# Altium footprint library Lib Marius.PcbLib: 393 footprints (part 6 of 25)
Each footprint in its own frame and in the unit in brackets; x right, y up, seen from the top. Pads: shape width x height; smd on the part's side, far side on the other; paste and mask are expansions set on the pad; w line width, h text height; cw(c..) or ccw(c..) is an arc to the next point about the centre after c.
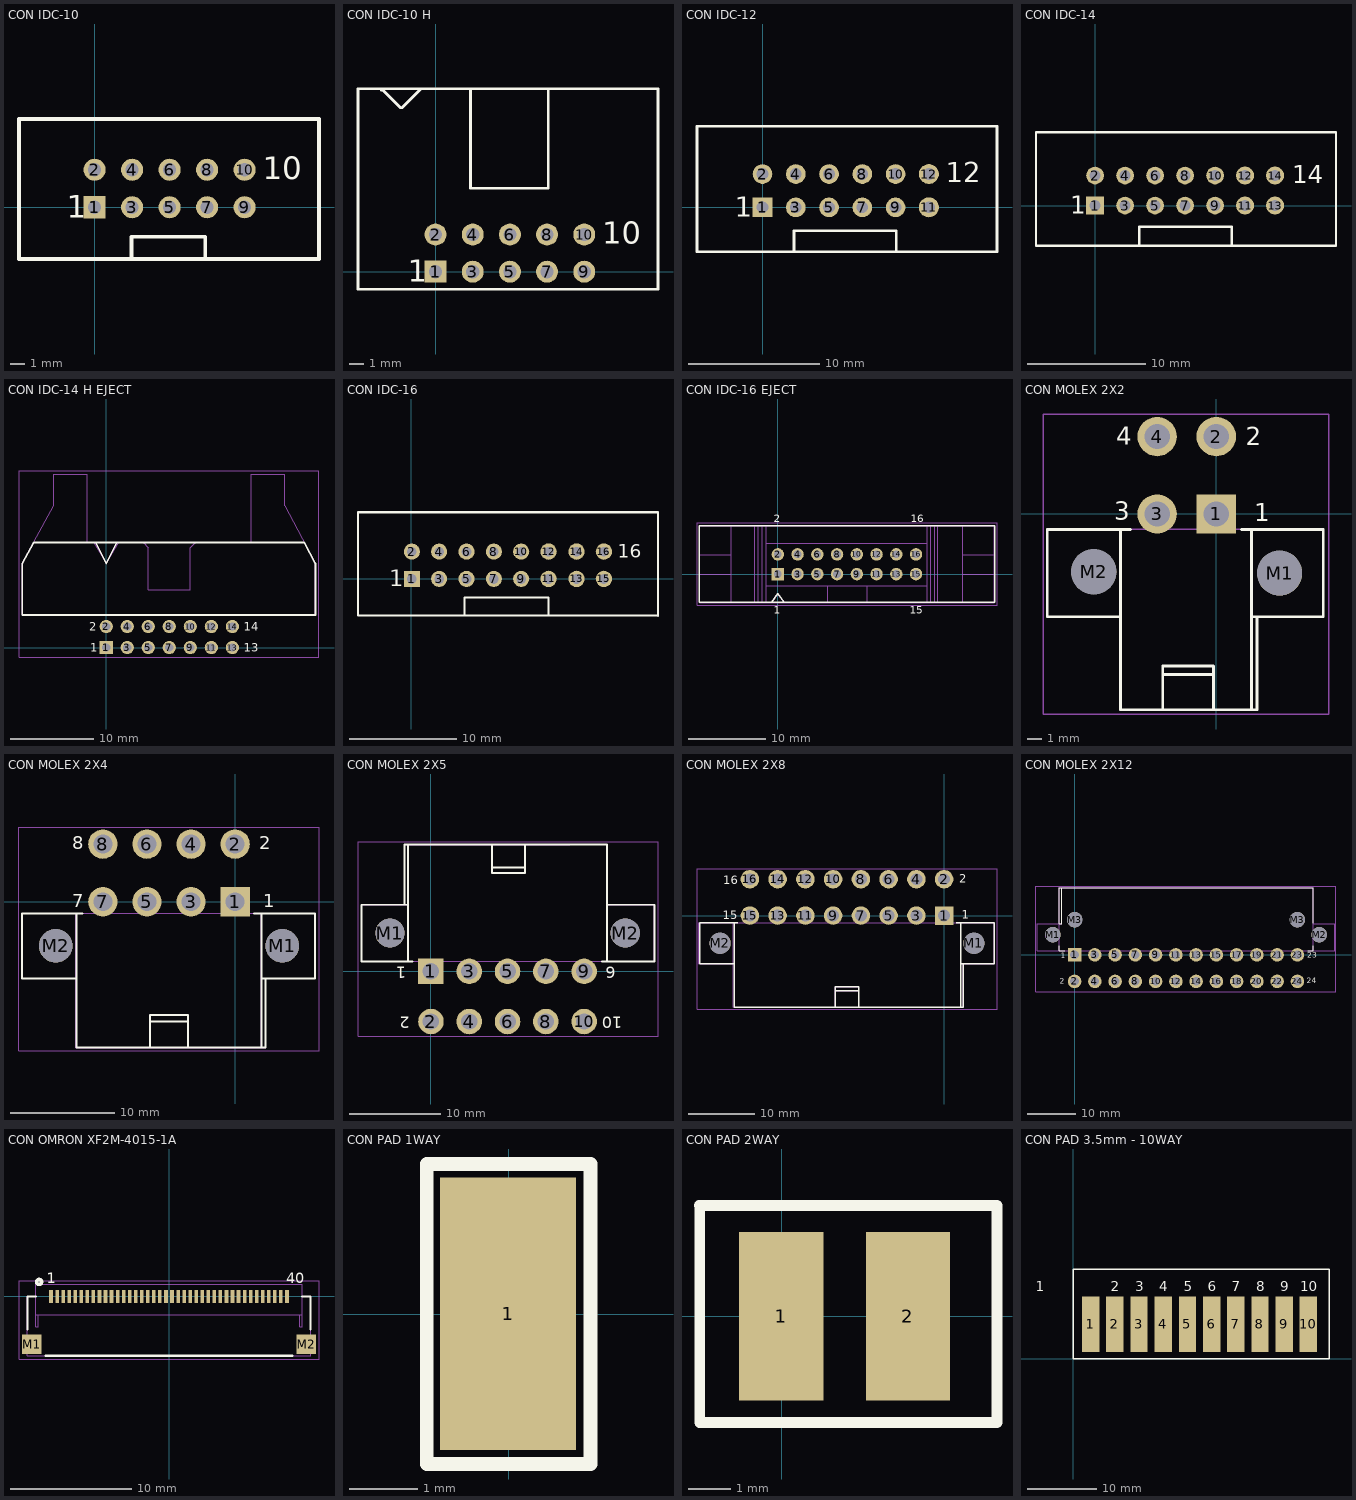
[diagram p5: the footprints below, top view; thin cyan lines are the x and y axes]

## CON IDC-10 [mm] "Connector; IDC; 5x2 Position"
pads (10):
  rect 1.5x1.5 hole 0.9: 1(0,0)
  round 1.5 hole 0.9: 2(0,2.54) 3(2.54,0) 4(2.54,2.54) 5(5.08,0) 6(5.08,2.54) 7(7.62,0) 8(7.62,2.54) 9(10.16,0) 10(10.16,2.54)
Top Overlay:
  lines w0.254: 2.54,-3.5 2.5,-3.46 2.5,-2 7.5,-2 7.5,-3.5 ; -5.12,-3.5 15.2,-3.5 15.2,5.974 -5.12,5.974 -5.12,-3.5
  text "1" at -1.9,-0.7 h1.52
  text "10" at 11.4,1.9 h1.52
Bottom Overlay:
  text "10" at 13.3,2 h1.27
  text "9" at 12.6,-0.6 h1.27
  text "1" at -1.7,-0.7 h1.27
  text "2" at -1.4,1.9 h1.27
3D body "IDC-5x2.step": height 8.65, standoff -3.54, extent -5.12,-3.5 15.2,5.974

## CON IDC-10 H [mm] "Connector; IDC; 5x2 Position"
pads (10):
  rect 1.5x1.5 hole 0.9: 1(0,0)
  round 1.5 hole 0.9: 2(0,2.54) 3(2.54,0) 4(2.54,2.54) 5(5.08,0) 6(5.08,2.54) 7(7.62,0) 8(7.62,2.54) 9(10.16,0) 10(10.16,2.54)
Top Overlay:
  lines w0.2: -3.7,12.4 -3.6,12.4 -2.4,11.2 -2.3,11.2 -1,12.5 ; 2.4,12.4 2.4,5.7 7.7,5.7 7.7,12.4 ; -5.3,-1.2 15.2,-1.2 15.2,12.5 -5.3,12.5 -5.3,-1.2
  text "1" at -1.9,-0.7 h1.52
  text "10" at 11.4,1.9 h1.52
Bottom Overlay:
  text "10" at 13.3,2 h1.27
  text "9" at 12.6,-0.6 h1.27
  text "1" at -1.7,-0.7 h1.27
  text "2" at -1.4,1.9 h1.27
3D body "IDC-5x2 H.step": height 9.74, standoff -3.04, extent -5.2,-0.218 15.12,12.418

## CON IDC-12 [mm] "Connector; IDC; 5x2 Position"
pads (12):
  rect 1.5x1.5 hole 0.9: 1(0,0)
  round 1.5 hole 0.9: 2(0,2.54) 3(2.54,0) 4(2.54,2.54) 5(5.08,0) 6(5.08,2.54) 7(7.62,0) 8(7.62,2.54) 9(10.16,0) 10(10.16,2.54)
  round 1.524 hole 0.9: 11(12.7,0) 12(12.7,2.54)
Top Overlay:
  lines w0.2: 2.4,-3.3 2.4,-1.8 10.2,-1.8 10.2,-3.3 ; -5,-3.4 17.9,-3.4 17.9,6.2 -5,6.2 -5,-3.4
  text "1" at -2.1,-0.7 h1.52
  text "12" at 14,1.9 h1.52
Bottom Overlay:
  text "11" at 15.4,-0.7 h1.27
  text "12" at 15.9,2 h1.27
  text "1" at -1.6,-0.7 h1.27
  text "2" at -1.3,2 h1.27
3D body "IDC-6x2.step": height 9.17, standoff -4.29, extent -5.03,-3.274 17.83,6.2

## CON IDC-14 [mm] "Connector; IDC; 5x2 Position"
pads (14):
  rect 1.5x1.5 hole 0.9: 1(0,0)
  round 1.5 hole 0.9: 2(0,2.54) 3(2.54,0) 4(2.54,2.54) 5(5.08,0) 6(5.08,2.54) 7(7.62,0) 8(7.62,2.54) 9(10.16,0) 10(10.16,2.54)
  round 1.524 hole 0.9: 11(12.7,0) 12(12.7,2.54) 13(15.24,0) 14(15.24,2.54)
Top Overlay:
  lines w0.2: 3.75,-3.362 3.75,-1.862 ; 3.75,-1.793 11.55,-1.793 ; 11.569,-3.284 11.569,-1.784 ; 20.3,-3.4 -5,-3.4 -5,6.2 20.4,6.2 20.4,-3.4
  text "1" at -2.1,-0.7 h1.52
  text "14" at 16.7,1.9 h1.52
Bottom Overlay:
  text "13" at 18.5,-0.6 h1.27
  text "14" at 18.6,2 h1.27
  text "1" at -1.6,-0.7 h1.27
  text "2" at -1.3,2 h1.27
3D body "IDC-7x2.step": height 9.27, standoff -2.92, extent -5,-3.4 20.4,6.074

## CON IDC-14 H EJECT [mm] "Connector, IDC, 14pin, Ejector"
height 10
pads (14):
  rect 1.6x1.6 hole 1: 1(0,0)
  round 1.6 hole 1: 2(0,2.54) 3(2.54,0) 4(2.54,2.54) 5(5.08,0) 6(5.08,2.54) 7(7.62,0) 8(7.62,2.54) 9(10.16,0) 10(10.16,2.54) 11(12.7,0) 12(12.7,2.54) 13(15.24,0) 14(15.24,2.54)
Top Overlay:
  lines w0.2: -1.27,12.7 0,10.16 1.27,12.7 ; -10.16,3.937 -10.16,10.16 -8.775,12.7 -2.286,12.7 17.526,12.7 23.934,12.7 25.273,10.16 25.273,3.937 -10.16,3.937
  text "14" at 16.637,2.032 h1
  text "13" at 16.637,-0.508 h1
  text "2" at -2.032,2.032 h1
  text "1" at -1.905,-0.508 h1
  text ".Designator" at -0.381,-3.302 h1.5
Mechanical 13:
  lines w0.1: 4.445,12.7 5.08,12.065 5.08,6.985 10.16,6.985 10.16,12.065 10.795,12.7 ; -6.35,20.955 -2.286,20.955 ; -6.35,20.955 -6.35,17.145 -10.16,10.16 -10.16,3.937 25.273,3.937 25.273,10.16 21.59,17.145 21.59,20.955 17.526,20.955 17.526,12.7 -2.286,12.7 -2.286,20.955 ; -6.35,20.955 -2.286,20.955 ; -1.524,12.7 1.524,12.7 0,10.16 -1.524,12.7
Mechanical 15:
  lines w0.1: -10.541,-1.143 -10.541,21.33 25.705,21.33 25.705,-1.143 -10.541,-1.143
3D body "EJH-107-01-X-D-RA.step": height 9.92, standoff -2.27, extent -10.084,-0.317 25.324,20.949

## CON IDC-16 [mm] "Connector; IDC; 5x2 Position"
pads (16):
  rect 1.5x1.5 hole 0.9: 1(0.043,0.005)
  round 1.5 hole 0.9: 2(0.043,2.545) 3(2.583,0.005) 4(2.583,2.545) 5(5.123,0.005) 6(5.123,2.545) 7(7.663,0.005) 8(7.663,2.545) 9(10.203,0.005) 10(10.203,2.545)
  round 1.524 hole 0.9: 11(12.743,0.005) 12(12.743,2.545) 13(15.343,0.005) 14(15.343,2.545) 15(17.883,0.005) 16(17.883,2.545)
Top Overlay:
  lines w0.2: 4.928,-1.718 12.728,-1.718 ; 4.943,-3.295 4.943,-1.795 ; 12.743,-3.295 12.743,-1.795 ; 22.836,-3.395 -4.957,-3.395 -4.957,6.205 22.909,6.205 22.909,-3.419
  text "16" at 19.181,1.962 h1.27
  text "1" at -2.057,-0.695 h1.52
Bottom Overlay:
  text "2" at -1.257,2.005 h1.27
  text "1" at -1.557,-0.695 h1.27
  text "16" at 21.2,2.062 h1.27
  text "15" at 21.071,-0.631 h1.27
3D body "IDC-9x2.step": height 8.65, standoff -3.54, extent -4.961,-3.356 22.979,6.119

## CON IDC-16 EJECT [mm] "Connector, header , 16pin, Ejector"
height 20
pads (16):
  rect 1.6x1.6 hole 1: 1(0,0)
  round 1.6 hole 1: 2(0,2.54) 3(2.54,0) 4(2.54,2.54) 5(5.08,0) 6(5.08,2.54) 7(7.62,0) 8(7.62,2.54) 9(10.16,0) 10(10.16,2.54) 11(12.7,0) 12(12.7,2.54) 13(15.24,0) 14(15.24,2.54) 15(17.78,0) 16(17.78,2.54)
Top Overlay:
  lines w0.2: -0.8,-3.6 0,-2.5 0.8,-3.6 ; -10.1,-3.6 -10.1,6.2 27.9,6.2 27.9,-3.6 -10.1,-3.6
  text "16" at 17.1,6.7 h1
  text "15" at 17,-5.1 h1
  text "2" at -0.5,6.7 h1
  text "1" at -0.5,-5.1 h1
  text ".Designator" at 1.1,-6 h1.5
Mechanical 13:
  lines w0.1: -10.074,0 -6,0 ; -10.074,2.5 -6,2.5 ; -3,-3.681 -3,6.225 ; -2.5,-3.681 -2.5,6.225 ; -2,-3.681 -2,6.225 ; -0.8,-3.681 0,-2.6 0.9,-3.681 ; 6.4,-3.681 6.4,-1.5 ; 11.5,-3.681 11.5,-1.5 ; 19.2,-3.681 19.2,-1.5 ; 19.2,4 -1.5,4 -1.5,-1.5 19.2,-1.5 ; 19.7,-3.681 19.7,6.225 ; 20.2,6.225 20.2,-3.681 20.3,-3.681 ; 20.6,-3.681 20.6,6.225 20.7,6.225 ; 23.8,-3.681 23.8,6.225 19.2,6.225 19.2,1.5 19.2,-1.5 ; 23.8,0 27.874,0 ; 23.8,2.5 27.874,2.5 ; -10.074,-3.681 -10.074,6.225 27.874,6.225 27.874,-3.681 -10.074,-3.681 ; -7.4,-3.681 -6,-3.681 -6,6.225 -1.5,6.225 -1.5,-3.681 -7.4,-3.681
Mechanical 15:
  lines w0.1: -10.4,-4 -10.4,6.6 28.2,6.6 28.2,-4 -10.4,-4
3D body "CON_SAMTEC_EJH-108-01-X-D-TH.step": height 16.9, standoff -3.03, extent -10.099,-3.706 27.849,6.2

## CON MOLEX 2X2 [mm] "Connector; Header; 2x2 Position, Minifit Jr, Horizontal"
height 11.1
pads (6):
  rect 2.8x2.8 hole 1.8: 1(0,0)
  round 2.8 hole 1.8: 2(0,5.5) 3(-4.2,0) 4(-4.2,5.5)
  round 3.2 hole 3.2 unplated: M1(4.5,-4.2) M2(-8.7,-4.1)
Top Overlay:
  lines w0.2: -11,-1.1 -12,-1.1 ; -6.8,-7.3 -12,-7.3 -12,-1.1 ; -6.8,-1.1 -6.8,-13.9 2.9,-13.9 2.9,-7.3 ; -6.1,-1.1 -12,-1.1 ; -3.8,-13.9 -3.8,-10.8 -0.2,-10.8 -0.2,-13.9 ; -3.8,-11.4 -0.2,-11.4 ; 1.8,-1.1 2.5,-1.1 ; 2.5,-13.9 2.5,-1.1 ; 2.5,-1.1 7.6,-1.1 7.6,-7.3 2.5,-7.3 2.5,-1.1
  text ".Designator" at 9.9,-8.3 h1.5
  text "4" at -7.1,4.9 h1.27
  text "2" at 2.085,4.881 h1.27
  text "1" at 2.7,-0.5 h1.27
  text "3" at -7.243,-0.397 h1.27
Mechanical 13:
  lines w0.1: -11,-1.1 -12,-1.1 ; -6.8,-7.3 -12,-7.3 -12,-1.1 ; -6.8,-1.1 -6.8,-13.9 2.9,-13.9 2.9,-12.6 2.9,-7.3 ; -3.8,-13.9 -3.8,-10.8 -0.2,-10.8 -0.2,-13.9 ; -3.8,-11.4 -0.2,-11.4 ; 2.5,-13.9 2.5,-1.1 ; -12,-1.1 -6.1,-1.1 2.5,-1.1 ; 2.5,-1.1 2.5,-7.3 7.6,-7.3 7.6,-1.1 2.5,-1.1
Mechanical 15:
  lines w0.1: -12.3,-14.2 -12.3,7.1 8,7.1 8,-14.2 -12.3,-14.2
3D body "039291047.stp": height 11.4, standoff -3.5, extent -11.9,-13.85 7.7,6.05

## CON MOLEX 2X4 [mm] "Connector; Header; 2x4 Position, Minifit Jr, Horizontal"
height 11.1
pads (10):
  rect 2.8x2.8 hole 1.8: 1(0,0)
  round 2.8 hole 1.8: 2(0,5.5) 3(-4.2,0) 4(-4.2,5.5) 5(-8.4,0) 6(-8.4,5.5) 7(-12.6,0) 8(-12.6,5.5)
  round 3.2 hole 3.2 unplated: M1(4.5,-4.2) M2(-17.1,-4.2)
Top Overlay:
  lines w0.2: -15.1,-7.3 -20.3,-7.3 -20.3,-1.1 -14.55,-1.1 ; -15.1,-1.1 -15.1,-13.9 2.9,-13.9 2.9,-7.3 ; -8.1,-13.9 -8.1,-10.8 -4.5,-10.8 -4.5,-13.9 ; -8.1,-11.4 -4.5,-11.4 ; 1.8,-1.1 2.5,-1.1 ; 2.5,-13.9 2.5,-1.1 ; 2.5,-1.1 7.6,-1.1 7.6,-7.3 2.5,-7.3 2.5,-1.1
  text ".Designator" at 9.9,-8.3 h1.5
  text "7" at -15.5,-0.5 h1.27
  text "8" at -15.5,5 h1.27
  text "1" at 2.7,-0.5 h1.27
  text "2" at 2.3,5 h1.27
Mechanical 13:
  lines w0.1: -19.4,-1.1 -20.3,-1.1 ; -15.2,-7.3 -20.3,-7.3 -20.3,-1.1 ; -15.2,-1.1 -15.2,-13.9 2.9,-13.9 2.9,-12.6 2.9,-7.3 ; -8.1,-13.9 -8.1,-10.8 -4.5,-10.8 -4.5,-13.9 ; -8.1,-11.4 -4.5,-11.4 ; 2.5,-13.9 2.5,-1.1 ; -20.3,-1.1 2.5,-1.1 ; 2.5,-1.1 2.5,-7.3 7.6,-7.3 7.6,-1.1 2.5,-1.1
Mechanical 15:
  lines w0.1: -20.6,-14.2 -20.6,7.1 8,7.1 8,-14.2 -20.6,-14.2
3D body "MOLEX-039291088.stp": height 11.4, standoff -3.5, extent -20.3,-13.9 7.7,6

## CON MOLEX 2X5 [mm] "Connector; Header; 2x5 Position, Minifit Jr, Horizontal"
height 11.1
pads (12):
  rect 2.8x2.8 hole 1.8: 1(0,0)
  round 2.8 hole 1.8: 2(0,-5.5) 3(4.2,0) 4(4.2,-5.5) 5(8.4,0) 6(8.4,-5.5) 7(12.6,0) 8(12.6,-5.5) 9(16.8,0) 10(16.8,-5.5)
  round 3.2 hole 3.2 unplated: M1(-4.5,4.2) M2(21.3,4.2)
Top Overlay:
  lines w0.2: -2.9,7.3 -2.9,13.9 19.3,13.9 19.3,1.1 ; -2.5,13.9 -2.5,1.1 ; -2,1.1 -2.5,1.1 ; 6.7,11.4 10.3,11.4 ; 6.7,13.9 6.7,10.8 10.3,10.8 10.3,13.9 ; 18.75,1.1 24.5,1.1 24.5,7.3 19.3,7.3 ; -2.5,1.1 -2.5,7.3 -7.6,7.3 -7.6,1.1 -2.5,1.1
  text "2" at -2.3,-5 h1.27
  text "1" at -2.7,0.5 h1.27
  text "10" at 21,-5 h1.27
  text "6" at 20.289,0.498 h1.27
  text ".Designator" at -9.9,8.3 h1.5
Mechanical 13:
  lines w0.1: -2.9,7.3 -2.9,12.6 -2.9,13.9 15.2,13.9 ; -2.5,13.9 -2.5,1.1 ; 6.7,11.4 10.3,11.4 ; 6.7,13.9 6.7,10.8 10.3,10.8 10.3,13.9 ; 19.4,1.1 19.4,13.9 ; 19.4,7.3 24.5,7.3 24.5,1.1 23.6,1.1 -2.5,1.1 ; -2.5,1.1 -7.6,1.1 -7.6,7.3 -2.5,7.3 -2.5,1.1
Mechanical 15:
  lines w0.1: -8,-7.1 -8,14.2 24.9,14.2 24.9,-7.1 -8,-7.1
3D body "Con Molex 039291107.stp": height 11.4, standoff -3.5, extent -7.7,-6 24.5,13.9

## CON MOLEX 2X8 [mm] "Connector; Header; 2x8 Position, Minifit Jr, Horizontal"
height 11.1
pads (18):
  rect 2.8x2.8 hole 1.8: 1(0,0)
  round 2.8 hole 1.8: 2(0,5.5) 3(-4.2,0) 4(-4.2,5.5) 5(-8.4,0) 6(-8.4,5.5) 7(-12.6,0) 8(-12.6,5.5) 9(-16.8,0) 10(-16.8,5.5) 11(-21,0) 12(-21,5.5) 13(-25.2,0) 14(-25.2,5.5) 15(-29.4,0) 16(-29.4,5.5)
  round 3.2 hole 3.2 unplated: M1(4.5,-4.2) M2(-33.9,-4.2)
Top Overlay:
  lines w0.2: -31.8,-7.3 -37,-7.3 -37,-1.1 -31.25,-1.1 ; -31.8,-1.1 -31.8,-13.9 2.9,-13.9 2.9,-7.3 ; -16.5,-13.9 -16.5,-10.8 -12.9,-10.8 -12.9,-13.9 ; -16.5,-11.4 -12.9,-11.4 ; 1.8,-1.1 2.5,-1.1 ; 2.5,-13.9 2.5,-1.1 ; 2.5,-1.1 7.6,-1.1 7.6,-7.3 2.5,-7.3 2.5,-1.1
  text ".Designator" at 9.9,-8.3 h1.5
  text "16" at -33.4,4.7 h1.27
  text "15" at -33.514,-0.532 h1.27
  text "1" at 2.7,-0.5 h1.27
  text "2" at 2.3,5 h1.27
Mechanical 13:
  lines w0.1: -36.1,-1.1 -37.1,-1.1 ; -31.9,-7.3 -37.1,-7.3 -37.1,-1.1 ; -31.9,-1.1 -31.9,-13.9 2.9,-13.9 2.9,-12.6 2.9,-7.3 ; -16.5,-13.9 -16.5,-10.8 -12.9,-10.8 -12.9,-13.9 ; -16.5,-11.4 -12.9,-11.4 ; 2.5,-13.9 2.5,-1.1 ; -37.1,-1.1 -31.2,-1.1 2.5,-1.1 ; 2.5,-1.1 2.5,-7.3 7.6,-7.3 7.6,-1.1 2.5,-1.1
Mechanical 15:
  lines w0.1: -37.4,-14.2 -37.4,7.1 8,7.1 8,-14.2 -37.4,-14.2
3D body "CON_MOLEX 039291167.stp": height 11.4, standoff -3.5, extent -37.1,-13.925 7.7,5.975

## CON MOLEX 2X12 [mm] "Connector, Header, Mini-fit Jr, 2 x 12 pins, 4.2mm pitch"
height 11.4
pads (28):
  rect 2.8x2.8 hole 1.8: 1(0,0)
  round 2.8 hole 1.8: 2(0,-5.5) 3(4.2,0) 4(4.2,-5.5) 5(8.4,0) 6(8.4,-5.5) 7(12.6,0) 8(12.6,-5.5) 9(16.8,0) 10(16.8,-5.5) 11(21,0) 12(21,-5.5) 13(25.2,0) 14(25.2,-5.5) 15(29.4,0) 16(29.4,-5.5) 17(33.6,0) 18(33.6,-5.5) 19(37.8,0) 20(37.8,-5.5) 21(42,0) 22(42,-5.5) 23(46.2,0) 24(46.2,-5.5)
  round 3.2 hole 3.2 unplated: M1(-4.5,4.2) M2(50.7,4.2) M3(0,7.3) M3(46.2,7.3)
Top Overlay:
  lines w0.2: -3.2,1.9 -3.2,0.9 -2,0.9 ; -2.7,13.9 -2.7,6.5 -3.2,6.5 -3.2,13.9 49.5,13.9 49.5,6.6 ; 48.3,0.9 49.5,0.9 49.5,1.9
  text ".Designator" at 15.3,-9.8 h1.5
  text "24" at 48.164,-6.309 h2
  text "2" at -3.064,-6.373 h2
  text "23" at 48.2,-1 h2
  text "1" at -2.9,-1.1 h2
Mechanical 13:
  lines w0.1: -2.7,13.9 -2.7,6.5 -7.7,6.5 -7.7,0.9 -3.2,0.9 ; 49.5,6.5 53.9,6.5 53.9,0.9 49.5,0.9 ; -3.2,0.9 -3.2,13.9 49.5,13.9 49.5,0.9 ; -3.2,0.9 49.5,0.9
Mechanical 15:
  lines w0.1: -8,-7.62 54.2,-7.62 54.2,14.2 -8,14.2 -8,-7.62
3D body "MOLEX 24 Jr Flange 874272412.stp": height 11.4, standoff -3.3, extent -7.7,-6.035 53.9,13.9

## CON OMRON XF2M-4015-1A [mm] "Connector, ZIF, 40 way, 0.5mm pitch"
height 2.1
pads (42):
  rect 0.3x1.1 smd mask+0.05: 1(-9.75,0) 2(-9.25,0) 3(-8.75,0) 4(-8.25,0) 5(-7.75,0) 6(-7.25,0) 7(-6.75,0) 8(-6.25,0) 9(-5.75,0) 10(-5.25,0) 11(-4.75,0) 12(-4.25,0) 13(-3.75,0) 14(-3.25,0) 15(-2.75,0) 16(-2.25,0) 17(-1.75,0) 18(-1.25,0) 19(-0.75,0) 20(-0.25,0) 21(0.25,0) 22(0.75,0) 23(1.25,0) 24(1.75,0) 25(2.25,0) 26(2.75,0) 27(3.25,0) 28(3.75,0) 29(4.25,0) 30(4.75,0) 31(5.25,0) 32(5.75,0) 33(6.25,0) 34(6.75,0) 35(7.25,0) 36(7.75,0) 37(8.25,0) 38(8.75,0) 39(9.25,0) 40(9.75,0)
  rect 1.6x1.6 smd: M1(-11.35,-3.95) M2(11.35,-3.95)
Top Overlay:
  circle w0.3: c-10.741,1.2 r0.2
  lines w0.2: -11.7,-2.7 -11.7,0 -11,0 ; -10.2,-4.9 10.2,-4.9 ; 11,0 11.7,0 11.7,-2.7
  text "40" at 9.7,0.8 h1.5
  text "1" at -10.1,0.8 h1.5
Mechanical 13:
  lines w0.1: -11,0 -11.7,0 -11.7,-4.9 11.7,-4.9 11.7,0 11,0 ; -10.8,-1.5 -10.8,-2.5 -11,-2.5 -11,-1.5 ; 10.8,-1.5 10.8,-2.5 11,-2.5 11,-1.5 ; -11,-1.5 11,-1.5 ; -11,-1.5 -11,1 11,1 11,-1.5
  text "1" at -10.6,-0.7 h1.5
  text "40" at 9.4,-0.7 h1.5
  text ".Designator" at -8.3,-0.7 h0.8
Mechanical 15:
  lines w0.1: -12.4,-5.2 -12.4,1.3 12.4,1.3 12.4,-5.2 -12.4,-5.2
3D body "CON_OMRON-XF2M_4015_1A.step": height 2, standoff 0, extent -12.05,-4.85 12.05,1.05

## CON PAD 1WAY [mm] "Square Pad"
pads (1):
  rect 2x4 smd: 1(-0.009,0.003)
Top Overlay:
  lines w0.2: -1.2,-2.2 1.2,-2.2 1.2,2.2 -1.2,2.2 -1.2,-2.2

## CON PAD 2WAY [mm] "Pads 3mm Pitch"
pads (2):
  rect 2x4 smd: 1(-0.009,0.003) 2(3,0)
Top Overlay:
  lines w0.254: -1.958,2.633 5.114,2.633 5.114,-2.521 -1.947,-2.521 -1.947,2.633

## CON PAD 3.5mm - 10WAY [mm] "Pads 2mm pitch"
pads (10):
  rect 2.5x8 smd: 1(2.5,5) 2(6,5) 3(9.5,5) 4(13,5) 5(16.5,5) 6(20,5) 7(23.5,5) 8(27,5) 9(30.5,5) 10(34,5)
Top Overlay:
  lines w0.2: 0,0 0,13 37,13 37,0 0,0
  text "1" at -5.414,9.8 h1.4
  text "2" at 5.433,9.8 h1.4
  text "3" at 8.933,9.8 h1.4
  text "4" at 12.433,9.8 h1.4
  text "5" at 15.933,9.8 h1.4
  text "6" at 19.433,9.8 h1.4
  text "7" at 22.933,9.8 h1.4
  text "8" at 26.433,9.8 h1.4
  text "9" at 29.933,9.8 h1.4
  text "10" at 32.85,9.8 h1.4